# Altium footprint library Standard_SMD.PcbLib: 65 footprints (part 2 of 5)
Each footprint in its own frame and in the unit in brackets; x right, y up, seen from the top. Pads: shape width x height; smd on the part's side, far side on the other; paste and mask are expansions set on the pad; w line width, h text height; cw(c..) or ccw(c..) is an arc to the next point about the centre after c.
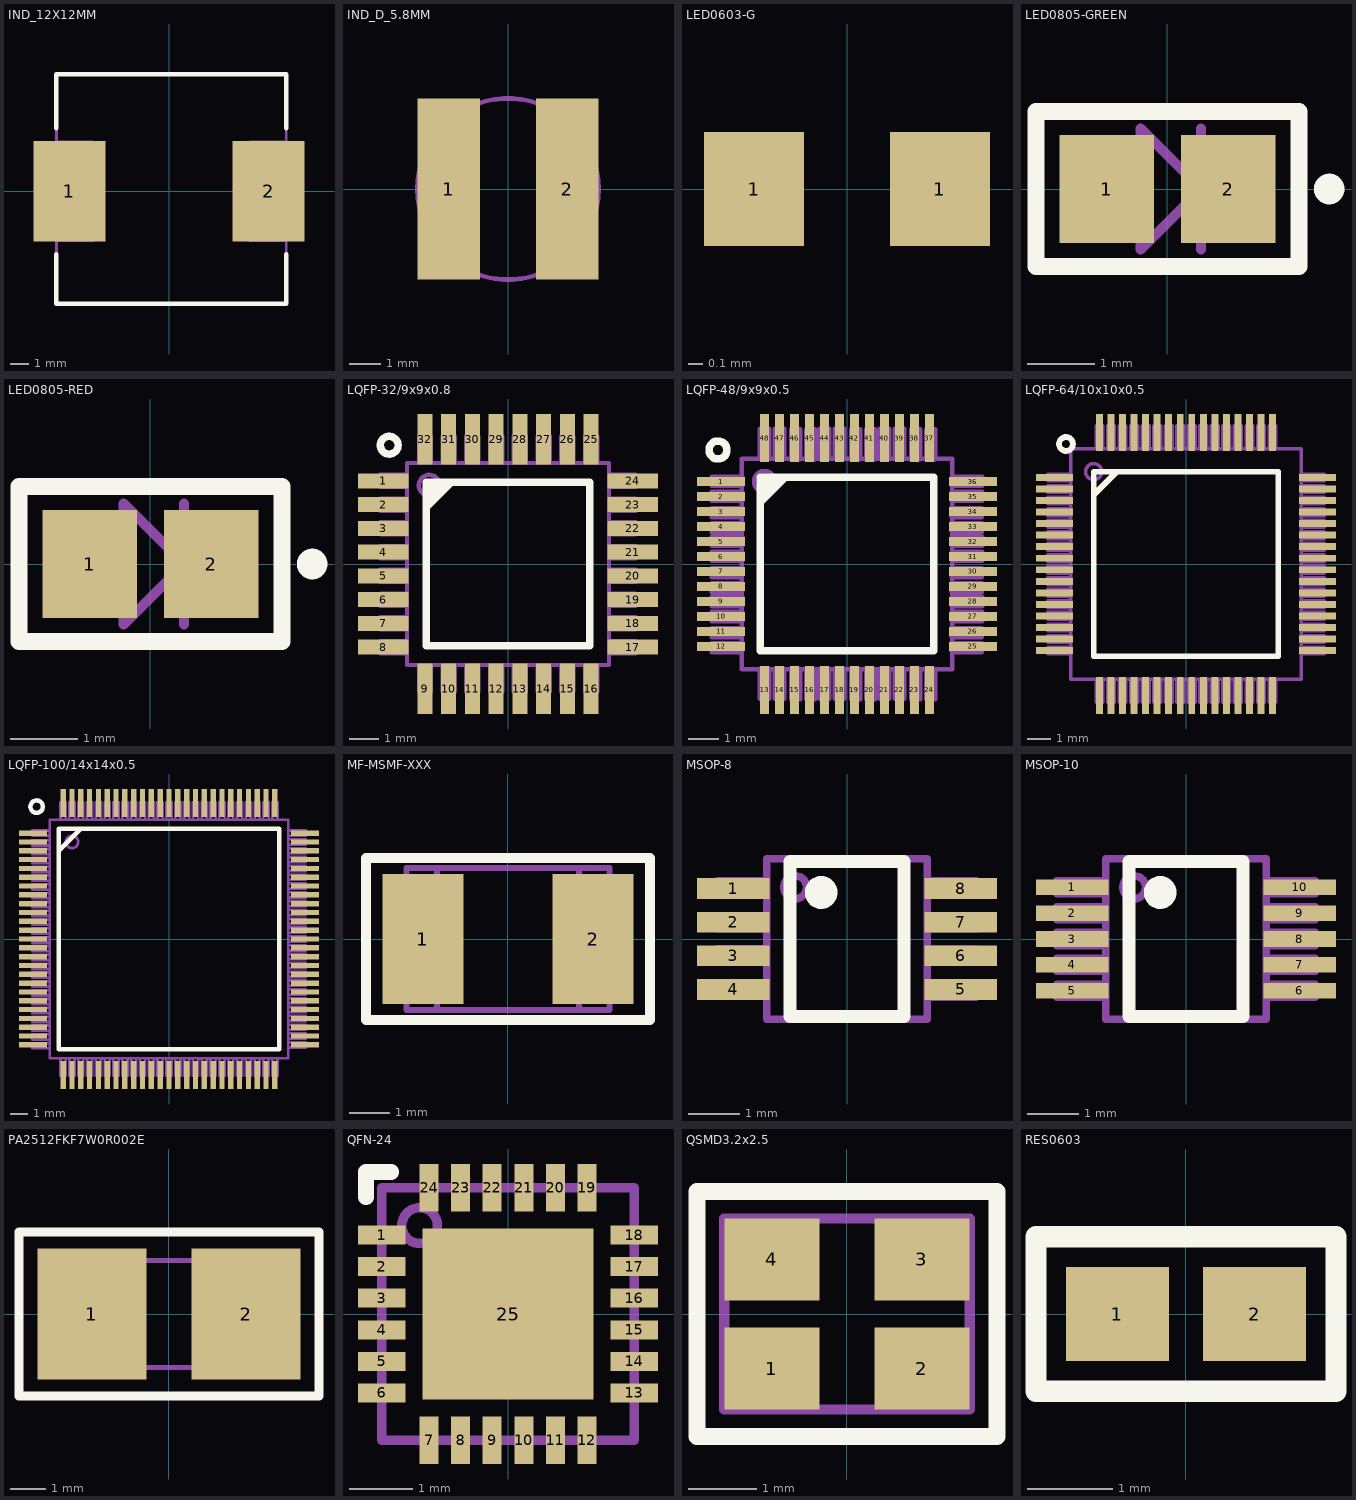
[diagram p1: the footprints below, top view; thin cyan lines are the x and y axes]

## IND_12X12MM [mm]
pads (2):
  rect 4x5.6 smd: 1(-5.526,0) 2(5.526,0)
Top Overlay:
  lines w0.25: -6.25,-3.5 -6.25,-6.25 6.5,-6.25 6.5,-3.5 ; -6.25,3.5 -6.25,6.5 6.5,6.5 6.5,3.5
Top Assembly:
  lines w0.15: -6.25,-6.25 6.5,-6.25 6.5,6.5 -6.25,6.5 -6.25,-6.25 ; -6.25,-2.75 -4.25,-2.75 -4.25,2.75 -6.25,2.75 -6.25,-2.75 ; 4.5,-2.75 6.5,-2.75 6.5,2.75 4.5,2.75 4.5,-2.75
3D body "b82477g4.step": height 8, standoff 0, extent -6.25,-6.25 6.55,6.55

## IND_D_5.8MM [mm]
pads (2):
  rect 2x5.8 smd: 1(-1.9,0) 2(1.9,0)
Top Assembly:
  circle w0.15: c0,0 r2.9
3D body "SDR0604-1.STEP": height 4.8, standoff 0, extent -2.895,-2.9 2.895,2.9

## LED0603-G [mm]
pads (2):
  rect 0.7x0.8 smd: 1(-0.65,0) 1(0.65,0)
3D body "LED_0603_G.STEP": height 0.6, standoff 0, extent -0.8,-0.4 0.8,0.4

## LED0805-GREEN [mm]
pads (2):
  rect 1.4x1.6 smd: 1(-0.9,0) 2(0.9,0)
Top Overlay:
  circle w0.254: c2.4,0 r0.1
  lines w0.25: -1.95,-1.15 1.95,-1.15 1.95,1.15 -1.95,1.15 -1.95,-1.15
Top Assembly:
  lines w0.15: -1.1,0 -0.4,0 ; 0.5,-0.9 0.5,0.9 ; 1.2,0 0.5,0 ; 0.5,0 -0.4,0.9 -0.4,-0.7 -0.4,-0.9 0.5,0 ; -1.95,-1.15 1.95,-1.15 1.95,1.15 -1.95,1.15 -1.95,-1.15
3D body "SMD_0805LED_GREEN.STEP": height 1.1, standoff 0, extent -1.01,-0.625 1.01,0.625

## LED0805-RED [mm]
pads (2):
  rect 1.4x1.6 smd: 1(-0.9,0) 2(0.9,0)
Top Overlay:
  circle w0.254: c2.4,0 r0.1
  lines w0.25: -1.95,-1.15 -1.95,1.15 1.95,1.15 1.95,-1.15 -1.95,-1.15
Top Assembly:
  lines w0.15: -1.1,0 -0.4,0 ; 0.5,-0.9 0.5,0.9 ; 1.2,0 0.5,0 ; 0.5,0 -0.4,-0.9 -0.4,-0.7 -0.4,0.9 0.5,0 ; -1.95,-1.15 -1.95,1.15 1.95,1.15 1.95,-1.15 -1.95,-1.15
3D body "SMD_0805LED_RED.STEP": height 1.1, standoff 0, extent -1.01,-0.625 1.01,0.625

## LQFP-32/9x9x0.8 [mm]
pads (32):
  rect 1.7x0.5 smd: 1(-4.2,2.8) 2(-4.2,2) 3(-4.2,1.2) 4(-4.2,0.4) 5(-4.2,-0.4) 6(-4.2,-1.2) 7(-4.2,-2) 8(-4.2,-2.8) 17(4.2,-2.8) 18(4.2,-2) 19(4.2,-1.2) 20(4.2,-0.4) 21(4.2,0.4) 22(4.2,1.2) 23(4.2,2) 24(4.2,2.8)
  rect 0.5x1.7 smd: 9(-2.8,-4.2) 10(-2,-4.2) 11(-1.2,-4.2) 12(-0.4,-4.2) 13(0.4,-4.2) 14(1.2,-4.2) 15(2,-4.2) 16(2.8,-4.2) 25(2.8,4.2) 26(2,4.2) 27(1.2,4.2) 28(0.4,4.2) 29(-0.4,4.2) 30(-1.2,4.2) 31(-2,4.2) 32(-2.8,4.2)
Top Overlay:
  circle w0.25: c-4,4 r0.3
  region: -2.75,1.75 -1.75,2.75 -2.75,2.75
  lines w0.25: -2.75,-2.75 2.75,-2.75 2.75,2.75 -2.75,2.75 -2.75,-2.75
Top Assembly:
  circle w0.15: c-2.65,2.65 r0.35
  lines w0.15: -4.3,-3 -3.4,-3 -3.4,-2.6 -4.3,-2.6 -4.3,-3 ; -4.3,-2.2 -3.4,-2.2 -3.4,-1.8 -4.3,-1.8 -4.3,-2.2 ; -4.3,-1.4 -3.4,-1.4 -3.4,-1 -4.3,-1 -4.3,-1.4 ; -4.3,-0.6 -3.4,-0.6 -3.4,-0.2 -4.3,-0.2 -4.3,-0.6 ; -4.3,0.2 -3.4,0.2 -3.4,0.6 -4.3,0.6 -4.3,0.2 ; -4.3,1 -3.4,1 -3.4,1.4 -4.3,1.4 -4.3,1 ; -4.3,1.8 -3.4,1.8 -3.4,2.2 -4.3,2.2 -4.3,1.8 ; -4.3,2.6 -3.4,2.6 -3.4,3 -4.3,3 -4.3,2.6 ; -3.4,-3.4 3.4,-3.4 3.4,3.4 -3.4,3.4 -3.4,-3.4 ; -2.995,-4.3 -2.995,-3.4 -2.595,-3.4 -2.595,-4.3 -2.995,-4.3 ; -2.995,3.4 -2.995,4.3 -2.595,4.3 -2.595,3.4 -2.995,3.4 ; -2.2,-4.3 -1.8,-4.3 -1.8,-3.4 -2.2,-3.4 -2.2,-4.3 ; -2.2,3.4 -1.8,3.4 -1.8,4.3 -2.2,4.3 -2.2,3.4 ; -1.4,-4.3 -1,-4.3 -1,-3.4 -1.4,-3.4 -1.4,-4.3 ; -1.4,3.4 -1,3.4 -1,4.3 -1.4,4.3 -1.4,3.4 ; -0.6,-4.3 -0.2,-4.3 -0.2,-3.4 -0.6,-3.4 -0.6,-4.3 ; -0.6,3.4 -0.2,3.4 -0.2,4.3 -0.6,4.3 -0.6,3.4 ; 0.2,-4.3 0.6,-4.3 0.6,-3.4 0.2,-3.4 0.2,-4.3 ; 0.2,3.4 0.6,3.4 0.6,4.3 0.2,4.3 0.2,3.4 ; 1,-4.3 1.4,-4.3 1.4,-3.4 1,-3.4 1,-4.3 ; 1,3.4 1.4,3.4 1.4,4.3 1,4.3 1,3.4 ; 1.8,-4.3 2.2,-4.3 2.2,-3.4 1.8,-3.4 1.8,-4.3 ; 1.8,3.4 2.2,3.4 2.2,4.3 1.8,4.3 1.8,3.4 ; 2.6,-4.3 3,-4.3 3,-3.4 2.6,-3.4 2.6,-4.3 ; 2.6,3.4 3,3.4 3,4.3 2.6,4.3 2.6,3.4 ; 3.4,-3 4.3,-3 4.3,-2.6 3.4,-2.6 3.4,-3 ; 3.4,-2.2 4.3,-2.2 4.3,-1.8 3.4,-1.8 3.4,-2.2 ; 3.4,-1.4 4.3,-1.4 4.3,-1 3.4,-1 3.4,-1.4 ; 3.4,-0.6 4.3,-0.6 4.3,-0.2 3.4,-0.2 3.4,-0.6 ; 3.4,0.2 4.3,0.2 4.3,0.6 3.4,0.6 3.4,0.2 ; 3.4,1 4.3,1 4.3,1.4 3.4,1.4 3.4,1 ; 3.4,1.8 4.3,1.8 4.3,2.2 3.4,2.2 3.4,1.8 ; 3.4,2.6 4.3,2.6 4.3,3 3.4,3 3.4,2.6
3D body "qfp-32_9x9x0.8.step": height 1.5, standoff 0.02, extent -4.5,-4.5 4.5,4.5

## LQFP-48/9x9x0.5 [mm]
pads (48):
  rect 1.6x0.3 smd: 1(-4.2,2.75) 2(-4.2,2.25) 3(-4.2,1.75) 4(-4.2,1.25) 5(-4.2,0.75) 6(-4.2,0.25) 7(-4.2,-0.25) 8(-4.2,-0.75) 9(-4.2,-1.25) 10(-4.2,-1.75) 11(-4.2,-2.25) 12(-4.2,-2.75) 25(4.2,-2.75) 26(4.2,-2.25) 27(4.2,-1.75) 28(4.2,-1.25) 29(4.2,-0.75) 30(4.2,-0.25) 31(4.2,0.25) 32(4.2,0.75) 33(4.2,1.25) 34(4.2,1.75) 35(4.2,2.25) 36(4.2,2.75)
  rect 0.3x1.6 smd: 13(-2.75,-4.2) 14(-2.25,-4.2) 15(-1.75,-4.2) 16(-1.25,-4.2) 17(-0.75,-4.2) 18(-0.25,-4.2) 19(0.25,-4.2) 20(0.75,-4.2) 21(1.25,-4.2) 22(1.75,-4.2) 23(2.25,-4.2) 24(2.75,-4.2) 37(2.75,4.2) 38(2.25,4.2) 39(1.75,4.2) 40(1.25,4.2) 41(0.75,4.2) 42(0.25,4.2) 43(-0.25,4.2) 44(-0.75,4.2) 45(-1.25,4.2) 46(-1.75,4.2) 47(-2.25,4.2) 48(-2.75,4.2)
Top Overlay:
  circle w0.25: c-4.3,3.8 r0.3
  region: -2.89,1.89 -1.89,2.89 -2.89,2.89
  lines w0.25: -2.89,-2.89 2.89,-2.89 2.89,2.89 -2.89,2.89 -2.89,-2.89
Top Assembly:
  drawing of 197 lines, arcs and shapes, not listed
3D body "qfp-48_9x9x0.5.step": height 1.5, standoff 0.02, extent -4.5,-4.5 4.5,4.5

## LQFP-64/10x10x0.5 [mm]
pads (64):
  rect 1.6x0.3 smd: 1(-5.7,3.75) 2(-5.7,3.25) 3(-5.7,2.75) 4(-5.7,2.25) 5(-5.7,1.75) 6(-5.7,1.25) 7(-5.7,0.75) 8(-5.7,0.25) 9(-5.7,-0.25) 10(-5.7,-0.75) 11(-5.7,-1.25) 12(-5.7,-1.75) 13(-5.7,-2.25) 14(-5.7,-2.75) 15(-5.7,-3.25) 16(-5.7,-3.75) 33(5.7,-3.75) 34(5.7,-3.25) 35(5.7,-2.75) 36(5.7,-2.25) 37(5.7,-1.75) 38(5.7,-1.25) 39(5.7,-0.75) 40(5.7,-0.25) 41(5.7,0.25) 42(5.7,0.75) 43(5.7,1.25) 44(5.7,1.75) 45(5.7,2.25) 46(5.7,2.75) 47(5.7,3.25) 48(5.7,3.75)
  rect 0.3x1.6 smd: 17(-3.75,-5.7) 18(-3.25,-5.7) 19(-2.75,-5.7) 20(-2.25,-5.7) 21(-1.75,-5.7) 22(-1.25,-5.7) 23(-0.75,-5.7) 24(-0.25,-5.7) 25(0.25,-5.7) 26(0.75,-5.7) 27(1.25,-5.7) 28(1.75,-5.7) 29(2.25,-5.7) 30(2.75,-5.7) 31(3.25,-5.7) 32(3.75,-5.7) 49(3.75,5.7) 50(3.25,5.7) 51(2.75,5.7) 52(2.25,5.7) 53(1.75,5.7) 54(1.25,5.7) 55(0.75,5.7) 56(0.25,5.7) 57(-0.25,5.7) 58(-0.75,5.7) 59(-1.25,5.7) 60(-1.75,5.7) 61(-2.25,5.7) 62(-2.75,5.7) 63(-3.25,5.7) 64(-3.75,5.7)
Top Overlay:
  circle w0.25: c-5.2,5.2 r0.3
  lines w0.25: -4,3 -3,4 ; -4,-4 4,-4 4,4 -4,4 -4,-4
Top Assembly:
  drawing of 261 lines, arcs and shapes, not listed
3D body "qfp-64_12x12x0.5.step": height 1.5, standoff 0.02, extent -6,-6 6,6

## LQFP-100/14x14x0.5 [mm]
pads (100):
  rect 1.6x0.3 smd: 1(-7.7,6) 2(-7.7,5.5) 3(-7.7,5) 4(-7.7,4.5) 5(-7.7,4) 6(-7.7,3.5) 7(-7.7,3) 8(-7.7,2.5) 9(-7.7,2) 10(-7.7,1.5) 11(-7.7,1) 12(-7.7,0.5) 13(-7.7,0) 14(-7.7,-0.5) 15(-7.7,-1) 16(-7.7,-1.5) 17(-7.7,-2) 18(-7.7,-2.5) 19(-7.7,-3) 20(-7.7,-3.5) 21(-7.7,-4) 22(-7.7,-4.5) 23(-7.7,-5) 24(-7.7,-5.5) 25(-7.7,-6) 51(7.7,-6) 52(7.7,-5.5) 53(7.7,-5) 54(7.7,-4.5) 55(7.7,-4) 56(7.7,-3.5) 57(7.7,-3) 58(7.7,-2.5) 59(7.7,-2) 60(7.7,-1.5) 61(7.7,-1) 62(7.7,-0.5) 63(7.7,0) 64(7.7,0.5) 65(7.7,1) 66(7.7,1.5) 67(7.7,2) 68(7.7,2.5) 69(7.7,3) 70(7.7,3.5) 71(7.7,4) 72(7.7,4.5) 73(7.7,5) 74(7.7,5.5) 75(7.7,6)
  rect 0.3x1.6 smd: 26(-6,-7.7) 27(-5.5,-7.7) 28(-5,-7.7) 29(-4.5,-7.7) 30(-4,-7.7) 31(-3.5,-7.7) 32(-3,-7.7) 33(-2.5,-7.7) 34(-2,-7.7) 35(-1.5,-7.7) 36(-1,-7.7) 37(-0.5,-7.7) 38(0,-7.7) 39(0.5,-7.7) 40(1,-7.7) 41(1.5,-7.7) 42(2,-7.7) 43(2.5,-7.7) 44(3,-7.7) 45(3.5,-7.7) 46(4,-7.7) 47(4.5,-7.7) 48(5,-7.7) 49(5.5,-7.7) 50(6,-7.7) 76(6,7.7) 77(5.5,7.7) 78(5,7.7) 79(4.5,7.7) 80(4,7.7) 81(3.5,7.7) 82(3,7.7) 83(2.5,7.7) 84(2,7.7) 85(1.5,7.7) 86(1,7.7) 87(0.5,7.7) 88(0,7.7) 89(-0.5,7.7) 90(-1,7.7) 91(-1.5,7.7) 92(-2,7.7) 93(-2.5,7.7) 94(-3,7.7) 95(-3.5,7.7) 96(-4,7.7) 97(-4.5,7.7) 98(-5,7.7) 99(-5.5,7.7) 100(-6,7.7)
Top Overlay:
  circle w0.25: c-7.5,7.5 r0.354
  lines w0.25: -6.25,5 -5,6.25 ; -6.25,-6.25 6.25,-6.25 6.25,6.25 -6.25,6.25 -6.25,-6.25
Top Assembly:
  drawing of 405 lines, arcs and shapes, not listed
3D body "qfp-100_16x16x0.5.step": height 1.5, standoff 0.02, extent -8,-8 8,8

## MF-MSMF-XXX [mm]
pads (2):
  rect 2x3.2 smd: 1(-2.1,0) 2(2.1,0)
Top Overlay:
  lines w0.25: -3.5,-2 3.5,-2 3.5,2 -3.5,2 -3.5,-2
Top Assembly:
  lines w0.15: -2.5,-0.75 ccw(c-2.5,0) -2.5,0.75 ; -1.75,-1.75 -1.75,1.75 ; 1.75,-1.75 1.75,1.75 ; 2.5,-0.75 cw(c2.5,0) 2.5,0.75 ; -2.5,-1.75 2.5,-1.75 2.5,1.75 -2.5,1.75 -2.5,-1.75
3D body "MF-MSMF-C1.1.stp": height 1.15, standoff 0.05, extent -2.365,-1.705 2.365,1.705

## MSOP-8 [mm]
pads (8):
  rect 1.4x0.4 smd: 1(-2.2,0.975) 2(-2.2,0.325) 3(-2.2,-0.325) 4(-2.2,-0.975) 5(2.2,-0.975) 6(2.2,-0.325) 7(2.2,0.325) 8(2.2,0.975)
Top Overlay:
  circle w0.35: c-0.5,0.9 r0.141
  lines w0.25: -1.1,-1.5 1.1,-1.5 1.1,1.5 -1.1,1.5 -1.1,-1.5
Top Assembly:
  circle w0.15: c-1,1 r0.22
  lines w0.15: -2.5,-1.1 -1.55,-1.1 -1.55,-0.85 -2.5,-0.85 -2.5,-1.1 ; -2.5,0.2 -1.55,0.2 -1.55,0.45 -2.5,0.45 -2.5,0.2 ; -2.5,0.875 -1.55,0.875 -1.55,1.125 -2.5,1.125 -2.5,0.875 ; -2.5,-0.438 -1.55,-0.438 -1.55,-0.188 -2.5,-0.188 -2.5,-0.438 ; -1.55,-1.55 1.55,-1.55 1.55,1.55 -1.55,1.55 -1.55,-1.55 ; 1.55,-1.125 2.5,-1.125 2.5,-0.875 1.55,-0.875 1.55,-1.125 ; 1.55,-0.45 2.5,-0.45 2.5,-0.2 1.55,-0.2 1.55,-0.45 ; 1.55,0.2 2.5,0.2 2.5,0.45 1.55,0.45 1.55,0.2 ; 1.55,0.875 2.5,0.875 2.5,1.125 1.55,1.125 1.55,0.875
3D body "msop-8.STEP": height 1.15, standoff 0, extent -2.45,-1.5 2.45,1.5

## MSOP-10 [mm]
pads (10):
  rect 1.4x0.3 smd: 1(-2.2,1) 2(-2.2,0.5) 3(-2.2,0) 4(-2.2,-0.5) 5(-2.2,-1) 6(2.2,-1) 7(2.2,-0.5) 8(2.2,0) 9(2.2,0.5) 10(2.2,1)
Top Overlay:
  circle w0.35: c-0.5,0.9 r0.141
  lines w0.25: -1.1,-1.5 1.1,-1.5 1.1,1.5 -1.1,1.5 -1.1,-1.5
Top Assembly:
  circle w0.15: c-1,1 r0.22
  lines w0.15: -2.5,-1.125 -1.55,-1.125 -1.55,-0.875 -2.5,-0.875 -2.5,-1.125 ; -2.5,-0.625 -1.55,-0.625 -1.55,-0.375 -2.5,-0.375 -2.5,-0.625 ; -2.5,-0.125 -1.55,-0.125 -1.55,0.125 -2.5,0.125 -2.5,-0.125 ; -2.5,0.375 -1.55,0.375 -1.55,0.625 -2.5,0.625 -2.5,0.375 ; -2.5,0.875 -1.55,0.875 -1.55,1.125 -2.5,1.125 -2.5,0.875 ; -1.55,-1.55 1.55,-1.55 1.55,1.55 -1.55,1.55 -1.55,-1.55 ; 1.55,-1.125 2.5,-1.125 2.5,-0.875 1.55,-0.875 1.55,-1.125 ; 1.55,-0.625 2.5,-0.625 2.5,-0.375 1.55,-0.375 1.55,-0.625 ; 1.55,-0.125 2.5,-0.125 2.5,0.125 1.55,0.125 1.55,-0.125 ; 1.55,0.375 2.5,0.375 2.5,0.625 1.55,0.625 1.55,0.375 ; 1.55,0.875 2.5,0.875 2.5,1.125 1.55,1.125 1.55,0.875
3D body "msop-10.step": height 1.1, standoff 0.04, extent -2.2,-1.575 2.2,1.575

## PA2512FKF7W0R002E [mm]
pads (2):
  rect 3.05x3.68 smd: 1(-2.16,0) 2(2.16,0)
Top Overlay:
  lines w0.25: -4.2,-2.3 4.2,-2.3 4.2,2.3 -4.2,2.3 -4.2,-2.3
Top Assembly:
  lines w0.15: -3.2,-1.5 3.2,-1.5 3.2,1.5 -3.2,1.5 -3.2,-1.5
3D body "res_2512.step": height 0.7, standoff 0, extent -3.15,-1.5 3.15,1.5

## QFN-24 [mm]
pads (25):
  rect 0.75x0.3 smd: 1(-2,1.25) 2(-2,0.75) 3(-2,0.25) 4(-2,-0.25) 5(-2,-0.75) 6(-2,-1.25) 13(2,-1.25) 14(2,-0.75) 15(2,-0.25) 16(2,0.25) 17(2,0.75) 18(2,1.25)
  rect 0.3x0.75 smd: 7(-1.25,-2) 8(-0.75,-2) 9(-0.25,-2) 10(0.25,-2) 11(0.75,-2) 12(1.25,-2) 19(1.25,2) 20(0.75,2) 21(0.25,2) 22(-0.25,2) 23(-0.75,2) 24(-1.25,2)
  rect 2.7x2.7 smd: 25(0,0)
Top Overlay:
  lines w0.25: -2.25,1.85 -2.25,2.25 -1.85,2.25
Top Assembly:
  circle w0.15: c-1.4,1.4 r0.283
  lines w0.15: -2,-2 2,-2 2,2 -2,2 -2,-2
3D body "QFN24.STEP": height 0.9, standoff 0, extent -2.005,-2.005 2.005,2.005

## QSMD3.2x2.5 [mm]
pads (4):
  rect 1.4x1.2 smd: 1(-1.1,-0.8) 2(1.1,-0.8) 3(1.1,0.8) 4(-1.1,0.8)
Top Overlay:
  lines w0.25: -2.2,-1.8 2.2,-1.8 2.2,1.8 -2.2,1.8 -2.2,-1.8
Top Assembly:
  region: -1.8,-1.4 -1.8,-0.7 -1.1,-1.4
  lines w0.15: -1.8,-1.4 1.8,-1.4 1.8,1.4 -1.8,1.4 -1.8,-1.4
3D body "TSX-3225.STEP": height 0.61, standoff 0.01, extent -1.6,-1.25 1.6,1.25

## RES0603 [mm]
pads (2):
  rect 1.2x1.1 smd: 1(-0.8,0) 2(0.8,0)
Top Overlay:
  lines w0.25: -1.75,-0.9 1.75,-0.9 1.75,0.9 -1.75,0.9 -1.75,-0.9
Top Assembly:
  lines w0.15: -1.75,-0.9 1.75,-0.9 1.75,0.9 -1.75,0.9 -1.75,-0.9
3D body "res_0603.step": height 0.63, standoff 0, extent -0.8,-0.3 0.8,0.3